# EAGLE library part 6180XX325323_618044325323 (library WR-DSUB)
WR-DSUB Male High Density Angled PCB Connector w/o Hex Screw Kind Properties Quality Class:3 as per CECC 75 301-802 Gender:Male Type:Angled Insulator Material:PBT Insulator Flammability Rating:UL94 V-0 Color:Black Contact Material:Copper Alloy Contact Plating:Selective Gold Contact Type:Stamped Shielding Material:Steel Shielding Plating:Nickel General Information Operating Temperature:-55 up to +105 °C Compliance:RoHS Electrical Properties IR1:3 A Working Voltage:60 V (AC) Withstanding Voltage:1000 V (AC) Contact Resistance:30 mΩ <https://www.we-online.com/catalog/media/o33092v209%20Family_WR-DSUB_6180xx325323.jpg> Details see: https://www.we-online.com/catalog/en/DSUB_MALE_HIGH_DENSITY_ANGLED_PCB_CONNECTOR_W_O_HEX_SCREW_6180XX325323/ Updated by Yingchun, Shan 2020-01-09 2020 (C) Würth Elektronik
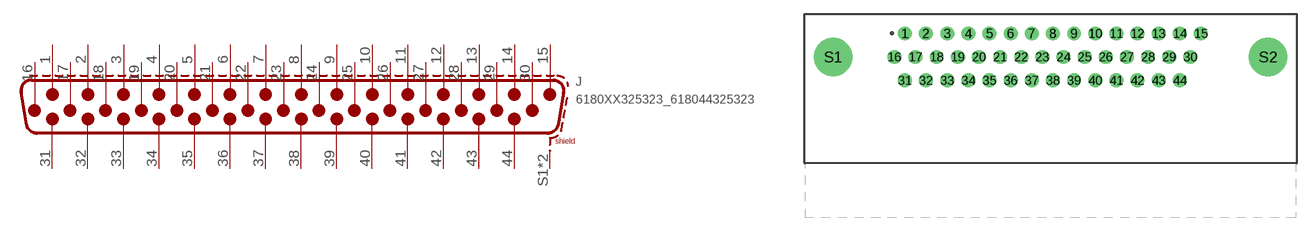
[diagram p1: symbol with the pads of 618044325323; footprint 618044325323]

Designator prefix J

## 6180XX325323_618044325323 (DATASHEET-URL: https://www.we-online.com/redexpert/spec/618044325323?ae; GENDER: Male; OPERATING-TEMPERATURE: -55 °C up to +105 °C; PART-NUMBER: 618044325323; PINS: 44; TYPE: Angled; VALUE: 618044325323; WORKING-VOLTAGE: 60VAC)  [618044325323]
1  1
2  2
3  3
4  4
5  5
6  6
7  7
8  8
9  9
10  10
11  11
12  12
13  13
14  14
15  15
16  16
17  17
18  18
19  19
20  20
21  21
22  22
23  23
24  24
25  25
26  26
27  27
28  28
29  29
30  30
31  31
32  32
33  33
34  34
35  35
36  36
37  37
38  38
39  39
40  40
41  41
42  42
43  43
44  44
S1  SHIELD
S2  SHIELD

## Footprint 618044325323 (pad centres in mm)
WR-DSUB Male High Density Angled PCB Connector without Hex Screw, 44 Pins
drill 1: 1 -15.776,8.97; 2 -13.486,8.97; 3 -11.196,8.97; 4 -8.906,8.97; 5 -6.616,8.97; 6 -4.326,8.97; 7 -2.036,8.97; 8 0.254,8.97; 9 2.544,8.97; 10 4.834,8.97; 11 7.124,8.97; 12 9.414,8.97; 13 11.704,8.97; 14 13.994,8.97; 15 16.284,8.97; 16 -16.921,6.43; 17 -14.631,6.43; 18 -12.341,6.43; 19 -10.051,6.43; 20 -7.761,6.43; 21 -5.471,6.43; 22 -3.181,6.43; 23 -0.891,6.43; 24 1.399,6.43; 25 3.689,6.43; 26 5.979,6.43; 27 8.269,6.43; 28 10.559,6.43; 29 12.849,6.43; 30 15.139,6.43; 31 -15.776,3.89; 32 -13.486,3.89; 33 -11.196,3.89; 34 -8.906,3.89; 35 -6.616,3.89; 36 -4.326,3.89; 37 -2.036,3.89; 38 0.254,3.89; 39 2.544,3.89; 40 4.834,3.89; 41 7.124,3.89; 42 9.414,3.89; 43 11.704,3.89; 44 13.994,3.89
drill 3.2: S1 -23.55,6.43; S2 23.55,6.43